# Altium footprint library Motorheader.PcbLib: 1 footprints
Each footprint in its own frame and in the unit in brackets; x right, y up, seen from the top. Pads: shape width x height; smd on the part's side, far side on the other; paste and mask are expansions set on the pad; w line width, h text height; cw(c..) or ccw(c..) is an arc to the next point about the centre after c.
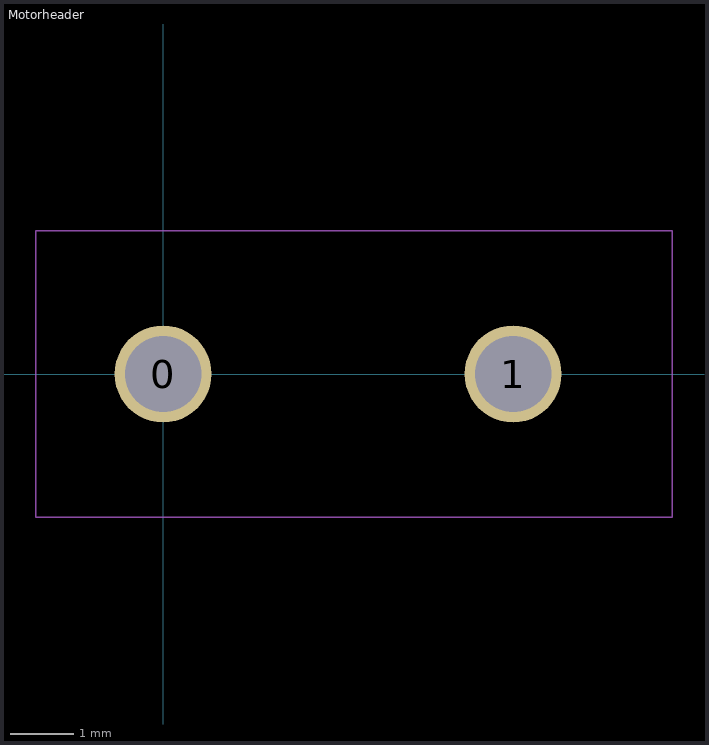
[diagram p0: the footprint, top view; thin cyan lines are the x and y axes]

## Motorheader [mil]
pads (2):
  round 60 hole 47.24: 0(0,0) 1(216.54,0)
Mechanical 1:
  lines w1: -78.74,-88.58 -78.74,88.58 314.96,88.58 314.96,-88.58 -78.74,-88.58